# EAGLE library part ATSAM3S*AA-? (library ic-ATMEL)
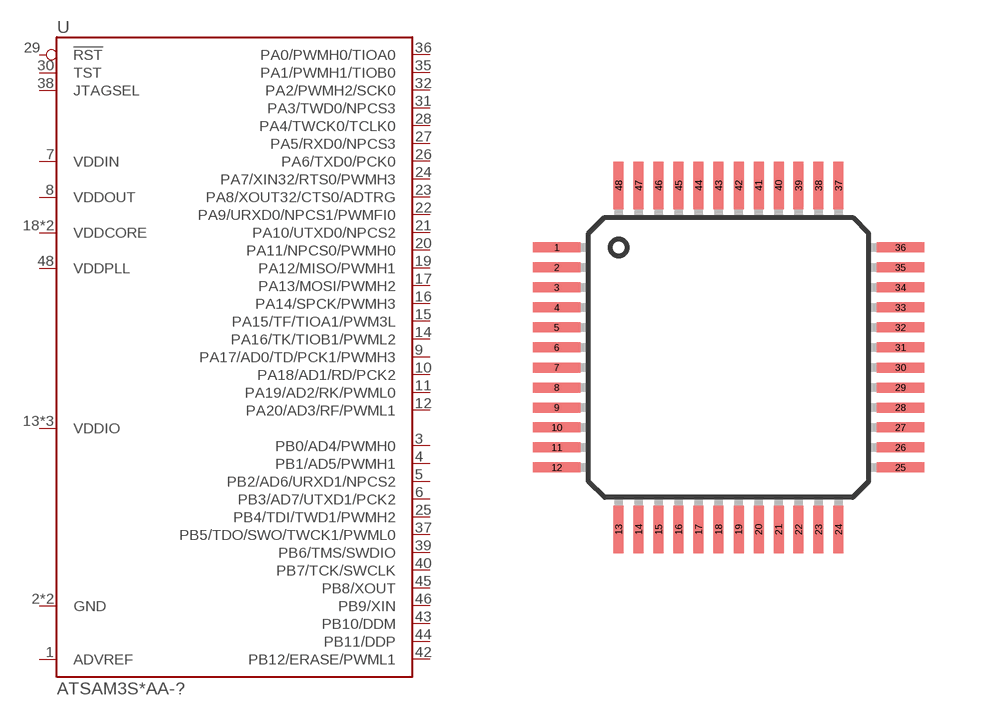
[diagram p16: symbol with the pads of QFP48-0.5; footprint QFP48-0.5]

Designator prefix U

## ATSAM3S1AA-AU, ATSAM3S2AA-AU, ATSAM3S4AA-AU  [QFP48-0.5]
1  ADVREF
2  GND
3  PB0/AD4/PWMH0
4  PB1/AD5/PWMH1
5  PB2/AD6/URXD1/NPCS2
6  PB3/AD7/UTXD1/PCK2
7  VDDIN
8  VDDOUT
9  PA17/AD0/TD/PCK1/PWMH3
10  PA18/AD1/RD/PCK2
11  PA19/AD2/RK/PWML0
12  PA20/AD3/RF/PWML1
13  VDDIO
14  PA16/TK/TIOB1/PWML2
15  PA15/TF/TIOA1/PWM3L
16  PA14/SPCK/PWMH3
17  PA13/MOSI/PWMH2
18  VDDCORE
19  PA12/MISO/PWMH1
20  PA11/NPCS0/PWMH0
21  PA10/UTXD0/NPCS2
22  PA9/URXD0/NPCS1/PWMFI0
23  PA8/XOUT32/CTS0/ADTRG
24  PA7/XIN32/RTS0/PWMH3
25  PB4/TDI/TWD1/PWMH2
26  PA6/TXD0/PCK0
27  PA5/RXD0/NPCS3
28  PA4/TWCK0/TCLK0
29  !RST
30  TST
31  PA3/TWD0/NPCS3
32  PA2/PWMH2/SCK0
33  VDDIO
34  GND
35  PA1/PWMH1/TIOB0
36  PA0/PWMH0/TIOA0
37  PB5/TDO/SWO/TWCK1/PWML0
38  JTAGSEL
39  PB6/TMS/SWDIO
40  PB7/TCK/SWCLK
41  VDDCORE
42  PB12/ERASE/PWML1
43  PB10/DDM
44  PB11/DDP
45  PB8/XOUT
46  PB9/XIN
47  VDDIO
48  VDDPLL

## Footprint QFP48-0.5 (pad centres in mm)
smd 1.2 x 0.25: 1 -4.3,2.75; 2 -4.3,2.25; 3 -4.3,1.75; 4 -4.3,1.25; 5 -4.3,0.75; 6 -4.3,0.25; 7 -4.3,-0.25; 8 -4.3,-0.75; 9 -4.3,-1.25; 10 -4.3,-1.75; 11 -4.3,-2.25; 12 -4.3,-2.75; 25 4.3,-2.75; 26 4.3,-2.25; 27 4.3,-1.75; 28 4.3,-1.25; 29 4.3,-0.75; 30 4.3,-0.25; 31 4.3,0.25; 32 4.3,0.75; 33 4.3,1.25; 34 4.3,1.75; 35 4.3,2.25; 36 4.3,2.75
smd 0.25 x 1.2: 13 -2.75,-4.3; 14 -2.25,-4.3; 15 -1.75,-4.3; 16 -1.25,-4.3; 17 -0.75,-4.3; 18 -0.25,-4.3; 19 0.25,-4.3; 20 0.75,-4.3; 21 1.25,-4.3; 22 1.75,-4.3; 23 2.25,-4.3; 24 2.75,-4.3; 37 2.75,4.3; 38 2.25,4.3; 39 1.75,4.3; 40 1.25,4.3; 41 0.75,4.3; 42 0.25,4.3; 43 -0.25,4.3; 44 -0.75,4.3; 45 -1.25,4.3; 46 -1.75,4.3; 47 -2.25,4.3; 48 -2.75,4.3